# Altium footprint library PCB12.PcbLib: 20 footprints (part 2 of 2)
Each footprint in its own frame and in the unit in brackets; x right, y up, seen from the top. Pads: shape width x height; smd on the part's side, far side on the other; paste and mask are expansions set on the pad; w line width, h text height; cw(c..) or ccw(c..) is an arc to the next point about the centre after c.
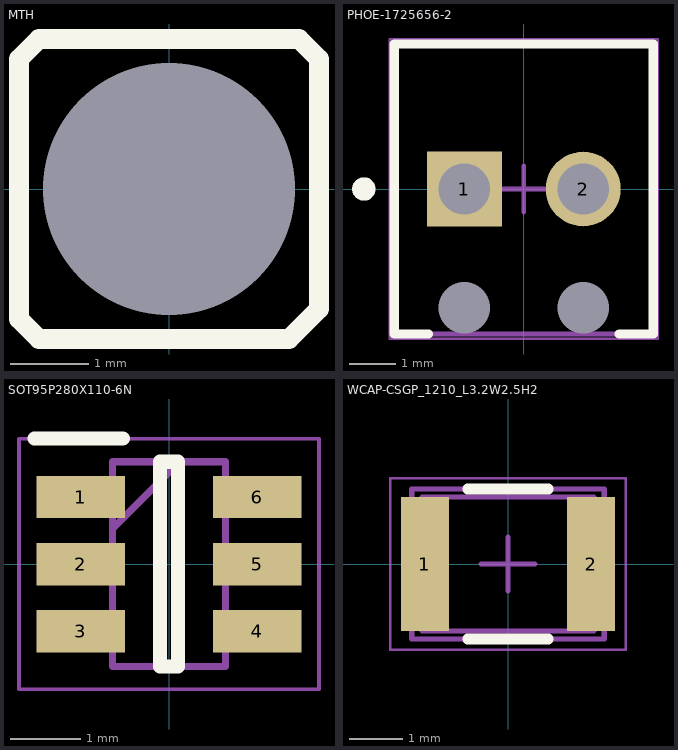
[diagram p1: the footprints below, top view; thin cyan lines are the x and y axes]

## MTH [mm]
pads (1):
  round 1 hole 3.2: ""(0,0)
Top Overlay:
  lines w0.254: -1.905,-1.651 -1.905,1.651 -1.651,1.905 1.651,1.905 1.905,1.651 1.905,-1.524 1.524,-1.905 -1.651,-1.905 -1.905,-1.651

## PHOE-1725656-2 [mm] "Connector, 2-Leads, Body 6.2x5.4mm, Pitch 2.54mm"
height 8.5
pads (4):
  rect 1.6x1.6 hole 1.1: 1(-1.27,0)
  round 1.6 hole 1.1: 2(1.27,0)
  round 0 hole 1.1 unplated: MH1(-1.27,-2.54) MH2(1.27,-2.54)
Top Overlay:
  circle w0.25: c-3.42,0 r0.125
  lines w0.2: -2.038,-3.1 -2.77,-3.1 -2.77,3.1 2.77,3.1 2.77,-3.1 2.038,-3.1
Mechanical 13:
  lines w0.1: -2.77,-3.1 -2.77,3.1 2.77,3.1 2.77,-3.1 -2.77,-3.1
Mechanical 15:
  lines w0.05: -2.87,-3.2 2.87,-3.2 2.87,3.2 -2.87,3.2 -2.87,-3.2
  lines w0.1: -0.5,0 0.5,0 ; 0,-0.5 0,0.5
3D body "1725656.stp": height 9, standoff -3, extent -2.77,-3.1 2.77,3.1

## SOT95P280X110-6N [mm]
pads (6):
  rect 1.25x0.6 smd: 1(-1.25,0.95) 2(-1.25,0) 3(-1.25,-0.95) 4(1.25,-0.95) 5(1.25,0) 6(1.25,0.95)
Top Overlay:
  lines w0.2: -1.905,1.778 -0.655,1.778 ; -0.127,-1.45 -0.127,1.45 0.127,1.45 0.127,-1.45 -0.127,-1.45
Mechanical 13:
  lines w0.1: -0.8,0.5 0.15,1.45 ; -0.8,-1.45 -0.8,1.45 0.8,1.45 0.8,-1.45 -0.8,-1.45
Mechanical 15:
  lines w0.05: -2.125,-1.775 -2.125,1.775 2.125,1.775 2.125,-1.775 -2.125,-1.775
3D body "LMR51430XFDDCR.stp": height 0, standoff 0, extent 0,0 0,0

## WCAP-CSGP_1210_L3.2W2.5H2 [mm] "Ceramic Capacitors, body 3.2x2.5mm"
height 2.2
pads (2):
  rect 0.9x2.5 smd: 1(-1.55,0) 2(1.55,0)
Top Overlay:
  lines w0.2: -0.75,-1.4 0.75,-1.4 ; -0.75,1.4 0.75,1.4
Top 3D Body:
  lines w0.1: -1.6,-1.25 -1.6,1.25 1.6,1.25 1.6,-1.25 -1.6,-1.25
Top Courtyard:
  lines w0.05: -2.2,-1.6 2.2,-1.6 2.2,1.6 -2.2,1.6 -2.2,-1.6
Top Assembly:
  lines w0.1: -1.8,-1.4 1.8,-1.4 1.8,1.4 -1.8,1.4 -1.8,-1.4
Top Designator:
  text ".Designator" at -3.647,-0.357 h1
Top Component Center:
  lines w0.1: -0.5,0 0.5,0 ; 0,-0.5 0,0.5
3D body "CAPC3225X20N.step": height 2, standoff 0, extent -1.6,-1.25 1.6,1.25